# EAGLE library part 691322310024 (library Wurth_Elektronik_Electromechanic_Terminal_Blocks_Connectors_rev15c)
WR-TBL Serie 322 - 3.81mm Vertical PCB Header , 24 Pins=>Code : Con_TBL_Pluggable_3.81_PCB_THT_Simple_691322310024 <http://katalog.we-online.de/media/images/eican/Con_TBL_Pluggable_3.81_PCB_THT_Simple_6913223100xx_pf2.jpg> Details see: http://katalog.we-online.de/en/em/691_322_310_0xx Created 2014-06-19, Karrer Zheng 2014 (C) Würth Elektronik
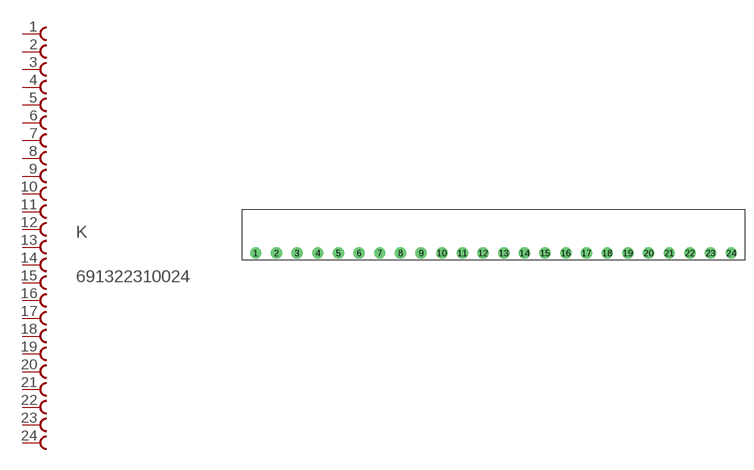
[diagram p56: symbol with the pads of 691322310024; footprint 691322310024]

Designator prefix K

## 691322310024  [691322310024]
1  1  pas
2  2  pas
3  3  pas
4  4  pas
5  5  pas
6  6  pas
7  7  pas
8  8  pas
9  9  pas
10  10  pas
11  11  pas
12  12  pas
13  13  pas
14  14  pas
15  15  pas
16  16  pas
17  17  pas
18  18  pas
19  19  pas
20  20  pas
21  21  pas
22  22  pas
23  23  pas
24  24  pas

## Footprint 691322310024 (pad centres in mm)
WR-TBL Serie 322 - 3.81mm Vertical PCB Header , 24 Pins
drill 1.4: 1 -38.1,0; 2 -34.29,0; 3 -30.48,0; 4 -26.67,0; 5 -22.86,0; 6 -19.05,0; 7 -15.24,0; 8 -11.43,0; 9 -7.62,0; 10 -3.81,0; 11 0,0; 12 3.81,0; 13 7.62,0; 14 11.43,0; 15 15.24,0; 16 19.05,0; 17 22.86,0; 18 26.67,0; 19 30.48,0; 20 34.29,0; 21 38.1,0; 22 41.91,0; 23 45.72,0; 24 49.53,0